# EAGLE library part PMC_IP2721 (library akita)
IP2721, USB-C PD Sink
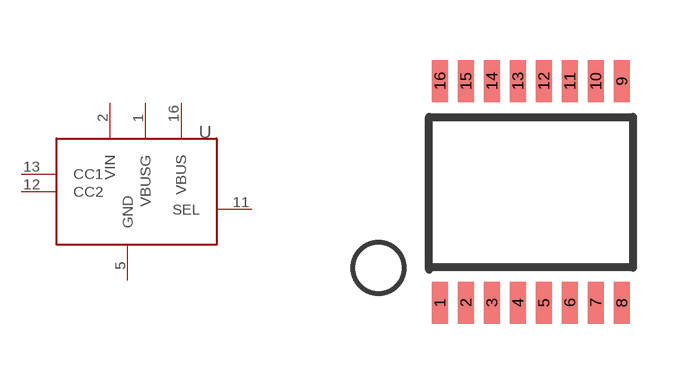
[diagram p206: symbol with the pads of TSSOP16; footprint TSSOP16]

Designator prefix U

## PMC_IP2721  [TSSOP16]
1  VBUSG
2  VIN
5  GND
11  SEL
12  CC2
13  CC1
16  VBUS

## Footprint TSSOP16 (pad centres in mm)
smd 0.4 x 1.05: 1 -2.275,-2.775; 2 -1.625,-2.775; 3 -0.975,-2.775; 4 -0.325,-2.775; 5 0.325,-2.775; 6 0.975,-2.775; 7 1.625,-2.775; 8 2.275,-2.775; 9 2.275,2.775; 10 1.625,2.775; 11 0.975,2.775; 12 0.325,2.775; 13 -0.325,2.775; 14 -0.975,2.775; 15 -1.625,2.775; 16 -2.275,2.775